# Altium schematic symbol library K9F5608U0D_TSOP48.SchLib: 1 symbol
Pins are listed as number, name and electrical type; pins without a type are passive.

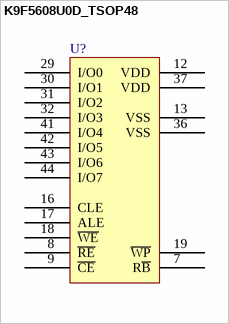
[diagram p0: symbol K9F5608U0D_TSOP48]

## K9F5608U0D_TSOP48
designator U?
pins: 1 NC hidden, 2 NC hidden, 3 NC hidden, 4 NC hidden, 5 NC hidden, 6 NC hidden, 7 R~{B}, 8 ~{RE}, 9 ~{CE}, 10 NC hidden, 11 NC hidden, 12 VDD, 13 VSS, 14 NC hidden, 15 NC hidden, 16 CLE, 17 ALE, 18 ~{WE}, 19 ~{WP}, 20 NC hidden, 21 NC hidden, 22 NC hidden, 23 NC hidden, 24 NC hidden, 25 NC hidden, 26 NC hidden, 27 NC hidden, 28 NC hidden, 29 I/O0, 30 I/O1, 31 I/O2, 32 I/O3, 33 NC hidden, 34 NC hidden, 35 NC hidden, 36 VSS, 37 VDD, 38 NC hidden, 39 NC hidden, 40 NC hidden, 41 I/O4, 42 I/O5, 43 I/O6, 44 I/O7, 45 NC hidden, 46 NC hidden, 47 NC hidden, 48 NC hidden